# Altium footprint library FLEX_PCB_CON.PcbLib: 1 footprints
Each footprint in its own frame and in the unit in brackets; x right, y up, seen from the top. Pads: shape width x height; smd on the part's side, far side on the other; paste and mask are expansions set on the pad; w line width, h text height; cw(c..) or ccw(c..) is an arc to the next point about the centre after c.
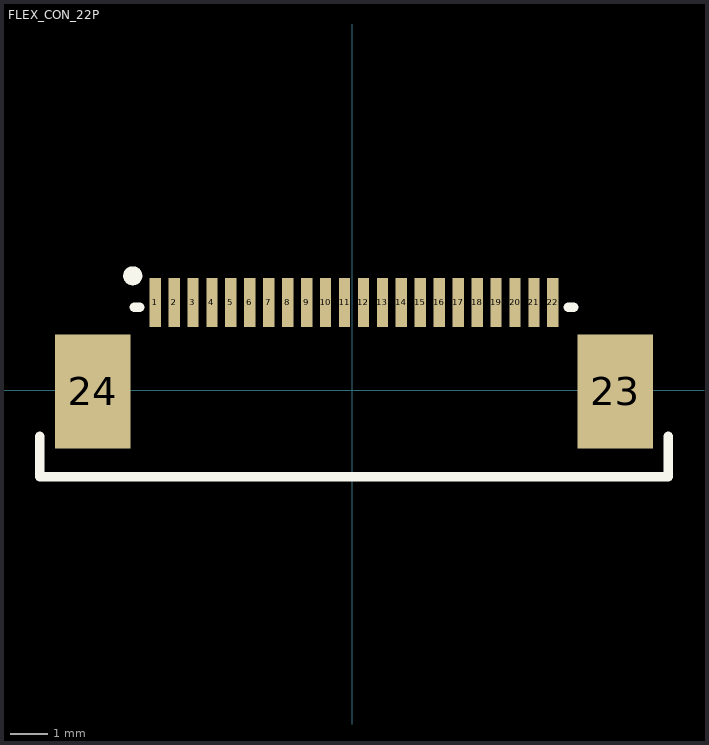
[diagram p0: the footprint, top view; thin cyan lines are the x and y axes]

## FLEX_CON_22P [mil]
pads (24):
  rect 11.8x51.2 smd paste+0 mask+2: 1(-204.9,91.3) 2(-185.2,91.3) 3(-165.6,91.3) 4(-145.9,91.3) 5(-126.2,91.3) 6(-106.5,91.3) 7(-86.8,91.3) 8(-67.1,91.3) 9(-47.4,91.3) 10(-27.8,91.3) 11(-8.1,91.3) 12(11.6,91.3) 13(31.3,91.3) 14(51,91.3) 15(70.7,91.3) 16(90.4,91.3) 17(110,91.3) 18(129.7,91.3) 19(149.4,91.3) 20(169.1,91.3) 21(188.8,91.3) 22(208.5,91.3)
  rect 78.7x118.1 smd paste+0 mask+2: 23(273.4,-1.2) 24(-269.9,-1.2)
Top Overlay:
  lines w10: -325,-47.7 -325,-90 328.5,-90 328.5,-47.7 ; -226.5,86.3 -220.9,86.3 ; 224.4,86.3 230,86.3 ; -233.2,118.9 -232.9,117 -231.8,115.4 -230.1,114.3 -228.2,113.9 -226.3,114.3 -224.7,115.4 -223.6,117 -223.2,118.9 -223.6,120.9 -224.7,122.5 -226.3,123.6 -228.2,123.9 -230.1,123.6 -231.8,122.5 -232.9,120.9 -233.2,118.9